# Altium footprint library AUAV-X1_R1.PcbLib: 39 footprints (part 3 of 3)
Each footprint in its own frame and in the unit in brackets; x right, y up, seen from the top. Pads: shape width x height; smd on the part's side, far side on the other; paste and mask are expansions set on the pad; w line width, h text height; cw(c..) or ccw(c..) is an arc to the next point about the centre after c.
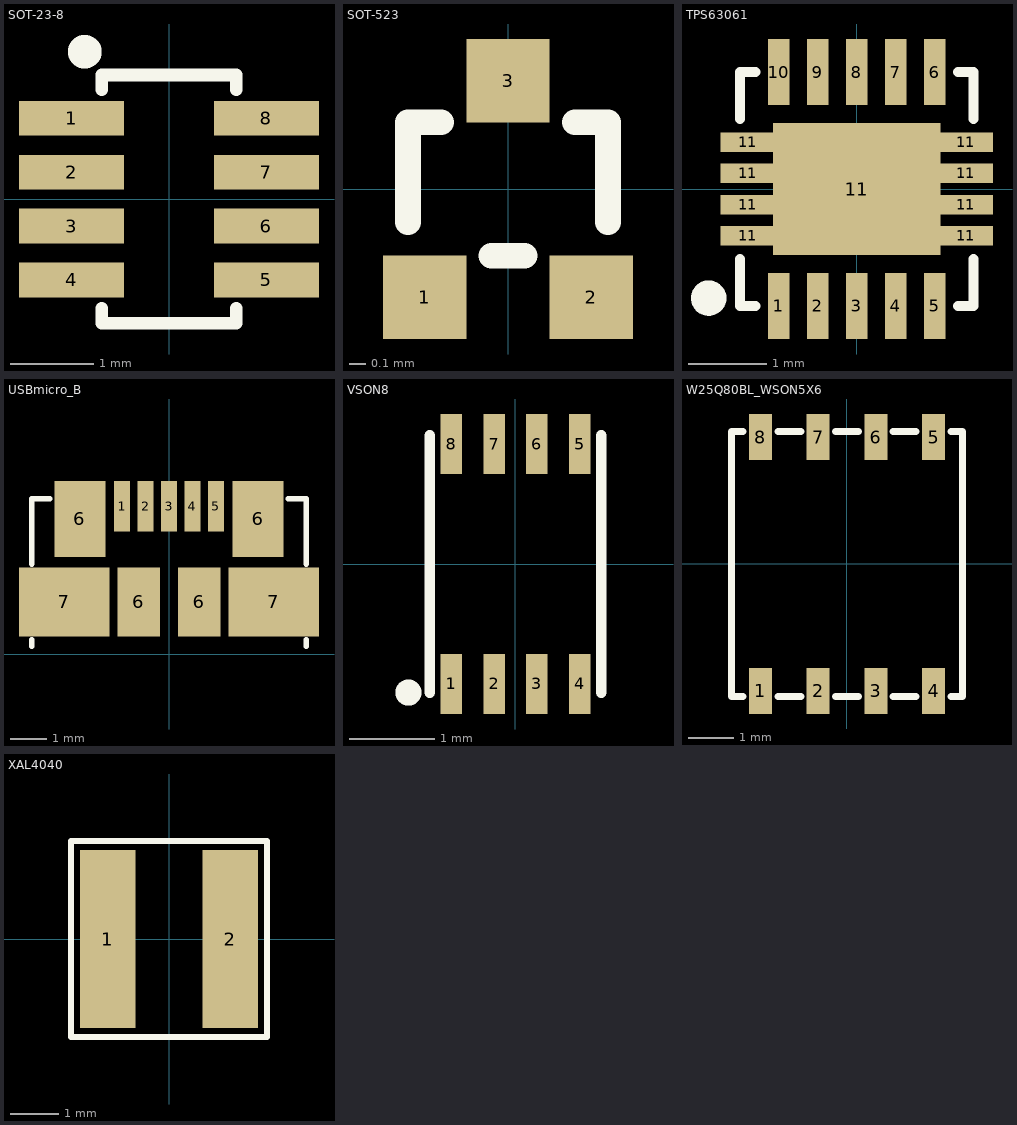
[diagram p2: the footprints below, top view; thin cyan lines are the x and y axes]

## SOT-23-8 [mm]
height 1.76
pads (8):
  rect 1.27x0.419 smd: 1(-1.175,0.975) 2(-1.175,0.325) 3(-1.175,-0.325) 4(-1.175,-0.975) 5(1.175,-0.975) 6(1.175,-0.325) 7(1.175,0.325) 8(1.175,0.975)
Top Overlay:
  circle w0.254: c-1.016,1.778 r0.076
  lines w0.154: -0.813,-1.321 -0.813,-1.499 0.813,-1.499 0.813,-1.321 ; -0.813,1.321 -0.813,1.499 0.813,1.499 0.813,1.321

## SOT-523 [mm]
height 0.55
pads (3):
  rect 0.5x0.5 smd: 1(-0.5,-0.65) 2(0.5,-0.65) 3(0,0.65)
Top Overlay:
  lines w0.154: -0.6,-0.2 -0.6,0.4 -0.4,0.4 ; -0.1,-0.4 0.1,-0.4 ; 0.4,0.4 0.6,0.4 0.6,-0.2

## TPS63061 [mm]
pads (19):
  rect 0.28x0.85 smd: 1(-1,-1.5) 2(-0.5,-1.5) 3(0,-1.5) 4(0.5,-1.5) 5(1,-1.5) 6(1,1.5) 7(0.5,1.5) 8(0,1.5) 9(-0.5,1.5) 10(-1,1.5)
  rect 0.7x0.25 smd: 11(-1.4,-0.6) 11(-1.4,-0.2) 11(-1.4,0.2) 11(-1.4,0.6) 11(1.4,-0.6) 11(1.4,-0.2) 11(1.4,0.2) 11(1.4,0.6)
  rect 2.15x1.7 smd: 11(0,0)
Top Overlay:
  circle w0.254: c-1.9,-1.4 r0.1
  lines w0.127: -1.5,-0.9 -1.5,-1.5 -1.3,-1.5 ; -1.5,0.9 -1.5,1.5 -1.3,1.5 ; 1.3,-1.5 1.5,-1.5 1.5,-0.9 ; 1.3,1.5 1.5,1.5 1.5,0.9
Top Paste:
  rectangle: 0.1,-0.8 1,-0.1
  rectangle: -1,-0.8 -0.1,-0.1
  rectangle: -1,0.1 -0.1,0.8
  rectangle: 0.1,0.1 1,0.8

## USBmicro_B [mm]
pads (11):
  rect 0.45x1.4 smd: 1(-1.3,4.1) 2(-0.65,4.1) 3(0,4.1) 4(0.65,4.1) 5(1.3,4.1)
  rect 1.4x2.1 smd: 6(-2.462,3.75) 6(2.462,3.75)
  rect 1.175x1.9 smd: 6(-0.835,1.45) 6(0.835,1.45)
  rect 2.5x1.9 smd: 7(-2.9,1.45) 7(2.9,1.45)
Top Overlay:
  lines w0.154: -3.8,0.23 -3.8,0.4 ; -3.8,2.5 -3.8,4.3 -3.3,4.3 ; 3.3,4.3 3.8,4.3 3.8,2.5 ; 3.8,0.23 3.8,0.4

## VSON8 [mm]
pads (8):
  rect 0.25x0.7 smd: 1(-0.75,-1.4) 2(-0.25,-1.4) 3(0.25,-1.4) 4(0.75,-1.4) 5(0.75,1.4) 6(0.25,1.4) 7(-0.25,1.4) 8(-0.75,1.4)
Top Overlay:
  circle w0.254: c-1.25,-1.5 r0.025
  lines w0.127: -1,-1.5 -1,1.5 ; 1,-1.5 1,1.5

## W25Q80BL_WSON5X6 [mil]
pads (8):
  rect 20x40 smd: 1(-75,-110) 2(-25,-110) 3(25,-110) 4(75,-110) 5(75,110) 6(25,110) 7(-25,110) 8(-75,110)
Top Overlay:
  lines w6.06: -90,-115 -100,-115 -100,115 -90,115 ; -60,-115 -40,-115 ; -60,115 -40,115 ; -10,-115 10,-115 ; -10,115 10,115 ; 40,-115 60,-115 ; 40,115 60,115 ; 90,-115 100,-115 100,115 90,115

## XAL4040 [mil]
pads (2):
  rect 45x145 smd: 1(-50,0) 2(50,0)
Top Overlay:
  lines w5: -80,-80 80,-80 80,80 -80,80 -80,-80